# Altium footprint library FP-THD-Semiconductors.PcbLib: 8 footprints
Each footprint in its own frame and in the unit in brackets; x right, y up, seen from the top. Pads: shape width x height; smd on the part's side, far side on the other; paste and mask are expansions set on the pad; w line width, h text height; cw(c..) or ccw(c..) is an arc to the next point about the centre after c.
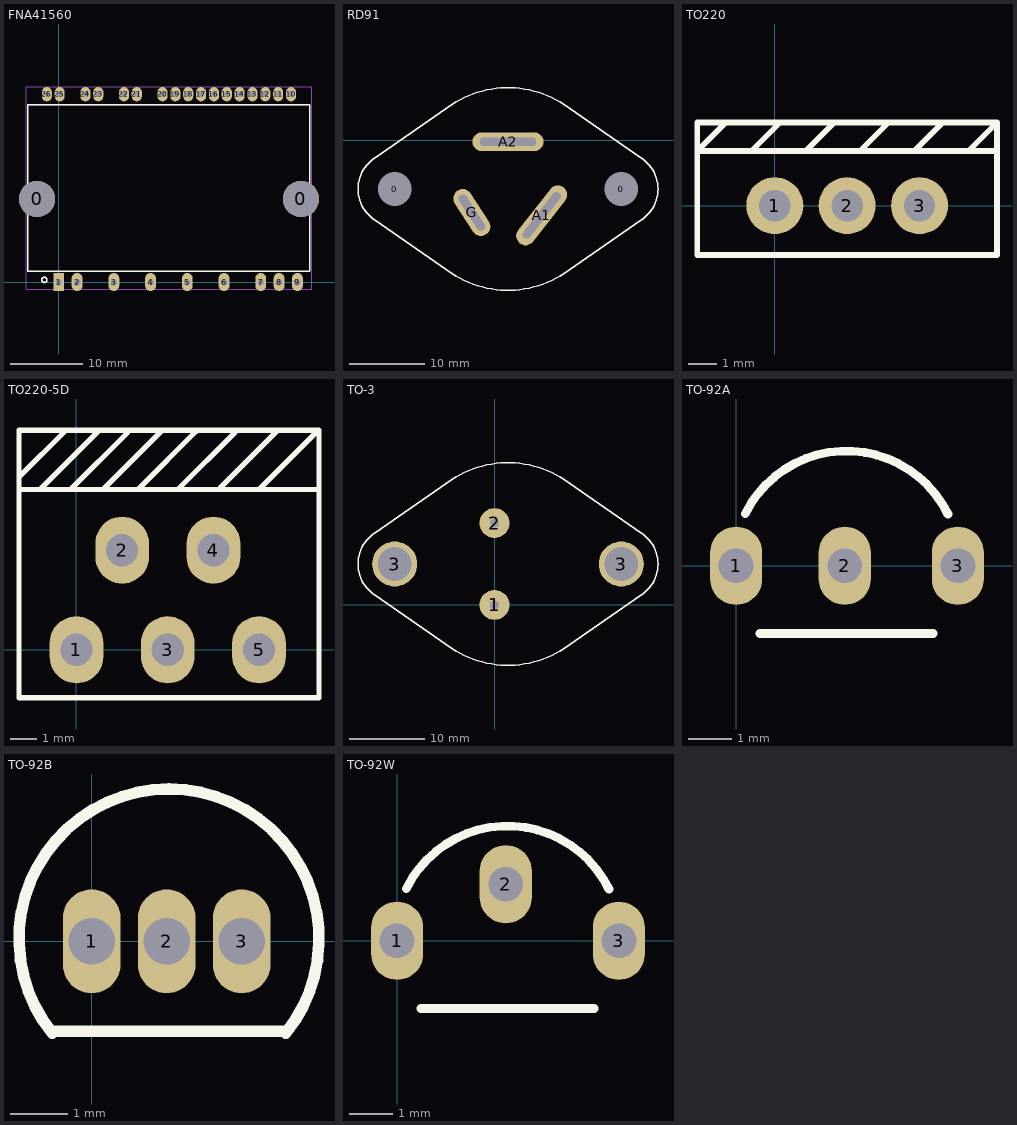
[diagram p0: the footprints below, top view; thin cyan lines are the x and y axes]

## FNA41560 [mm]
pads (28):
  round 5 hole 5: 0(-3,11.5) 0(33.5,11.5)
  rect 1.5x2.5 hole 0.9: 1(0,0)
  oval 1.5x2.5 hole 0.9: 2(2.54,0) 3(7.62,0) 4(12.7,0) 5(17.78,0) 6(22.86,0) 7(27.94,0) 8(30.48,0) 9(33.02,0)
  oval 1.4x2 hole 0.8: 10(32.131,26) 11(30.353,26) 12(28.575,26) 13(26.797,26) 14(25.019,26) 15(23.241,26) 16(21.463,26) 17(19.685,26) 18(17.907,26) 19(16.129,26) 20(14.351,26) 21(10.795,26) 22(9.017,26) 23(5.461,26) 24(3.683,26) 25(0.127,26) 26(-1.651,26)
Top Overlay:
  circle w0.2: c-2,0.3 r0.361
  lines w0.2: -4.26,1.5 -4.26,24.5 34.74,24.5 34.74,1.5 -4.26,1.5
Top Assembly:
  circle w0.1: c-2,0.3 r0.361
  lines w0.1: -4.26,1.5 -4.26,24.5 34.74,24.5 34.74,1.5 -4.26,1.5
  text "'.Designator'" at 11.654,11.862 h1.52
Mechanical 15:
  lines w0.05: -4.51,-1 34.99,-1 34.99,27 -4.51,27 -4.51,-1
3D body "FNA41560B2.step": height 7, standoff -3, extent -4.26,-0.525 34.74,26.525

## RD91 [mm]
height 30.5
pads (5):
  round 1.524 hole 4.5: 0(7,-6.5) 0(37.2,-6.5)
  oval 2.5x9.5 hole 7.5 slot 1.1 at 142 deg rot 142: A1(26.592,-10.009)
  oval 9.5x2.5 hole 7.5 slot 1.1 at 90 deg: A2(22.1,-0.2)
  oval 2.5x7 hole 5.5 slot 1.1 at 33 deg rot 33: G(17.278,-9.632)
Top Overlay:
  lines w0.2: 4.408,-10.658 cw(c7,-6.5) 4.408,-2.342 14.679,4.778 cw(c22.1,-6.5) 29.521,4.778 39.792,-2.342 cw(c37.2,-6.5) 39.792,-10.658 29.521,-17.778 cw(c22.1,-6.5) 14.679,-17.778 4.408,-10.658
Top Assembly:
  lines w0.1: 4.408,-10.658 cw(c7,-6.5) 4.408,-2.342 14.679,4.778 cw(c22.1,-6.5) 29.521,4.778 39.792,-2.342 cw(c37.2,-6.5) 39.792,-10.658 29.521,-17.778 cw(c22.1,-6.5) 14.679,-17.778 4.408,-10.658
  text "'.Designator'" at 20.254,-7.138 h1.52
3D body "BTA40600B Triac4.STEP": height 3.5, standoff -20, extent 2.1,-19.995 42.1,6.995

## TO220 [mm]
height 30.5
pads (3):
  round 2 hole 1.1: 1(0,0) 2(2.54,0) 3(5.08,0)
Top Overlay:
  lines w0.2: -1.72,2.92 -2.72,1.92 7.789,1.92 ; -0.816,1.92 0.184,2.92 ; 1.088,1.92 2.088,2.92 ; 2.992,1.92 3.992,2.92 ; 4.896,1.92 5.896,2.92 ; 6.8,1.92 7.8,2.92 ; 7.8,2.92 -2.72,2.92 -2.72,-1.73 7.8,-1.73 7.8,2.92
Top Assembly:
  lines w0.1: -1.73,2.9 -2.73,1.9 7.779,1.9 ; -0.826,1.9 0.174,2.9 ; 1.078,1.9 2.078,2.9 ; 2.982,1.9 3.982,2.9 ; 4.886,1.9 5.886,2.9 ; 6.79,1.9 7.79,2.9 ; 7.79,2.9 7.79,-1.75 -2.73,-1.75 -2.73,2.9 7.79,2.9
  text "'.Designator'" at 0.124,0.762 h1.52
3D body "TO-220 3pins short V2.STEP": height 19.11, standoff -3, extent -3.402,-1.8 8.482,2.6

## TO220-5D [mm]
pads (6):
  oval 2x2.5 hole 1.2: 1(0,0) 2(1.7,3.71) 3(3.4,0) 4(5.1,3.71) 5(6.8,0)
  round 0 smd: 6(3.4,2.3)
Top Overlay:
  lines w0.2: -2.14,5.97 8.97,5.97 ; -2.14,5.98 -2.14,6.43 -0.4,8.17 ; -1.35,5.97 0.79,8.11 0.79,8.17 ; -0.22,5.97 1.89,8.08 1.89,8.17 ; 1.049,6.029 3.159,8.139 ; 2.349,6.029 4.459,8.139 ; 3.789,5.989 5.899,8.099 ; 5.369,6.049 7.479,8.159 ; 6.809,5.989 8.99,8.17 -2.14,8.17 -2.14,-1.78 9.03,-1.78 9.03,8.17
Top Assembly:
  text "'.Designator'" at 2.224,2.362 h1.52
3D body "SW3dPS-TO220-5.STEP": height 22.35, standoff -1.64, extent -1.655,-0.205 8.505,8.035

## TO-3 [mm]
height 30.5
pads (4):
  round 4 hole 1.2: 1(0,0) 2(0,10.9)
  round 6 hole 4.5: 3(-13.3,5.45) 3(16.9,5.45)
Top Overlay:
  lines w0.2: -15.892,1.292 cw(c-13.3,5.45) -15.892,9.608 -5.621,16.728 cw(c1.8,5.45) 9.221,16.728 19.492,9.608 cw(c16.9,5.45) 19.492,1.292 9.221,-5.828 cw(c1.8,5.45) -5.621,-5.828 -15.892,1.292
Top Assembly:
  lines w0.1: -15.892,1.292 cw(c-13.3,5.45) -15.892,9.608 -5.621,16.728 cw(c1.8,5.45) 9.221,16.728 19.492,9.608 cw(c16.9,5.45) 19.492,1.292 9.221,-5.828 cw(c1.8,5.45) -5.621,-5.828 -15.892,1.292
  text "'.Designator'" at -0.046,4.812 h1.52
3D body "User Library-TO-3-1.step": height 8.76, standoff -5.21, extent -17.498,-7.25 21.098,18.15

## TO-92A [mm]
pads (3):
  oval 1.2x1.8 hole 0.8 unplated: 1(0,0) 2(2.5,0) 3(5.1,0)
Top Overlay:
  lines w0.2: 0.211,1.195 cw(c2.54,0.04) 4.873,1.188 ; 0.55,-1.56 4.53,-1.56
Top Assembly:
  lines w0.1: 0.211,1.195 cw(c2.54,0.04) 4.873,1.188 ; 0.55,-1.56 4.53,-1.56
  text "'.Designator'" at 1.624,-0.338 h1.52
3D body "ALSRobot-TO-92W.step": height 7.2, standoff -4.1, extent -0.291,-1.461 5.24,2.639

## TO-92B [mm]
pads (3):
  oval 1x1.8 hole 0.8 unplated: 1(0,0) 2(1.3,0) 3(2.6,0)
Top Overlay:
  lines w0.2: -0.686,-1.589 cw(c1.34,0.04) 3.366,-1.589 ; -0.65,-1.56 3.33,-1.56
Top Assembly:
  lines w0.1: -0.686,-1.589 cw(c1.34,0.04) 3.366,-1.589 ; -0.65,-1.56 3.33,-1.56
  text "'.Designator'" at 0.424,-0.338 h1.52
3D body "ALSRobot-TO-92A.step": height 8, standoff -3, extent -1.06,-1.49 3.74,2.44

## TO-92W [mm]
pads (3):
  oval 1.2x1.8 hole 0.8 unplated: 1(0,0) 2(2.5,1.3) 3(5.1,0)
Top Overlay:
  lines w0.2: 0.211,1.195 cw(c2.54,0.04) 4.873,1.188 ; 0.55,-1.56 4.53,-1.56
Top Assembly:
  lines w0.1: 0.211,1.195 cw(c2.54,0.04) 4.873,1.188 ; 0.55,-1.56 4.53,-1.56
  text "'.Designator'" at 1.624,-0.338 h1.52
3D body "ALSRobot-TO-92B.step": height 7.34, standoff -0.7, extent -0.34,-1.3 5.34,2.5